# Altium schematic symbol library Misc.SCHLIB: 46 symbols
Pins are listed as number, name and electrical type; pins without a type are passive.

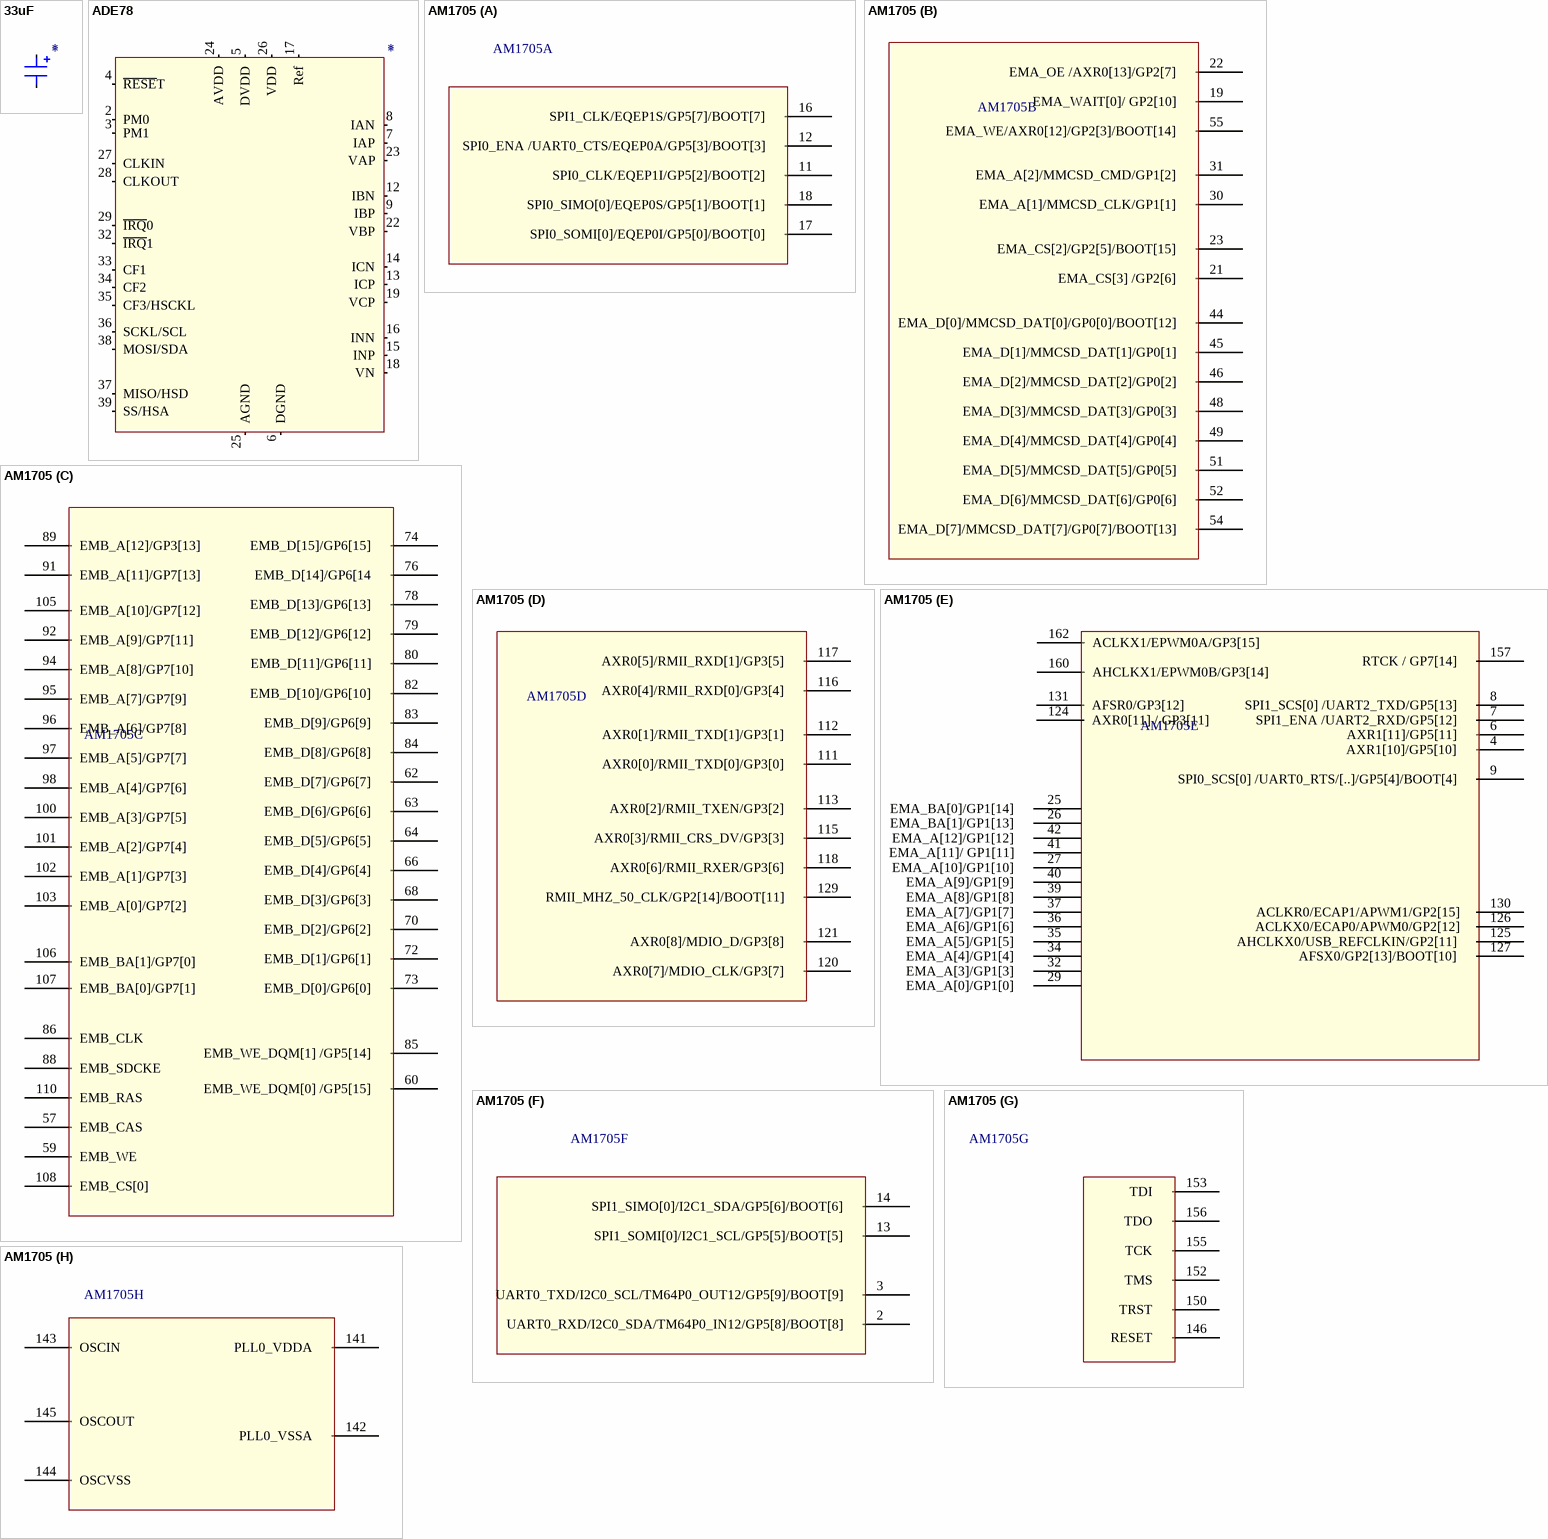
[diagram p0: symbols 33uF to AM1705]

## 33uF
designator *
footprint CC2312-6032
pins: 1 +, 2 -

## ADE78
designator *
footprint 40LFCSP
footprint 40LFCSP
pins: 2 PM0, 3 PM1, 4 ~{RESE}T, 5 DVDD, 6 DGND, 7 IAP, 8 IAN, 9 IBP, 12 IBN, 13 ICP, 14 ICN, 15 INP, 16 INN, 17 Ref, 18 VN, 19 VCP, 22 VBP, 23 VAP, 24 AVDD, 25 AGND, 26 VDD, 27 CLKIN, 28 CLKOUT, 29 ~{IRQ}0, 32 ~{IRQ}1, 33 CF1, 34 CF2, 35 CF3/HSCKL, 36 SCKL/SCL, 37 MISO/HSD, 38 MOSI/SDA, 39 SS/HSA

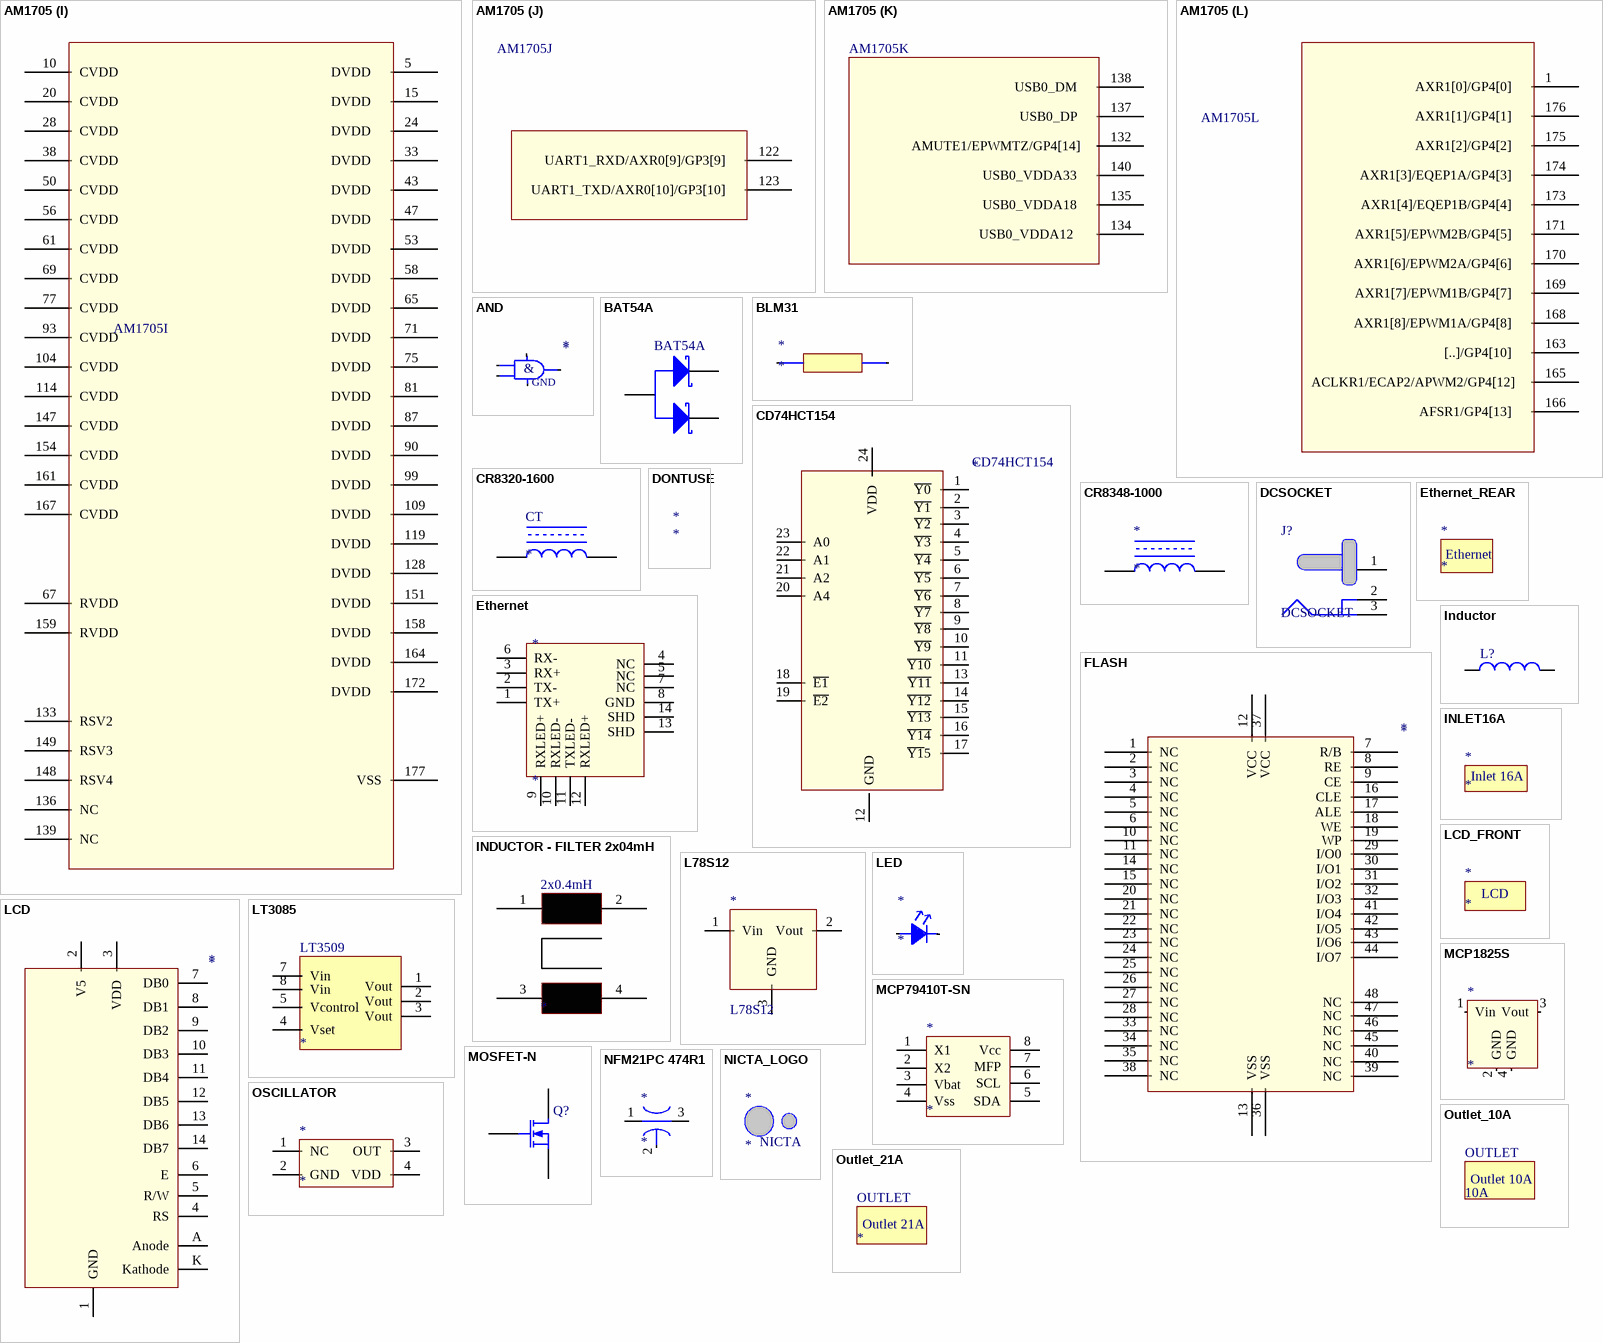
[diagram p1: symbols AM1705 to Outlet_21A]

## AM1705
designator AM1705
footprint HLQFP (PTP) 176 (Huuuuuuuge)
part A pins: 11 SPI0_CLK/EQEP1I/GP5[2]/BOOT[2]   , 12 SPI0_ENA /UART0_CTS/EQEP0A/GP5[3]/BOOT[3]   , 16 SPI1_CLK/EQEP1S/GP5[7]/BOOT[7]   , 17 SPI0_SOMI[0]/EQEP0I/GP5[0]/BOOT[0]   , 18 SPI0_SIMO[0]/EQEP0S/GP5[1]/BOOT[1]   
part B pins: 19 EMA_WAIT[0]/ GP2[10]   , 21 EMA_CS[3] /GP2[6]   , 22 EMA_OE /AXR0[13]/GP2[7]   , 23 EMA_CS[2]/GP2[5]/BOOT[15]   , 30 EMA_A[1]/MMCSD_CLK/GP1[1]   , 31 EMA_A[2]/MMCSD_CMD/GP1[2]   , 44 EMA_D[0]/MMCSD_DAT[0]/GP0[0]/BOOT[12]   , 45 EMA_D[1]/MMCSD_DAT[1]/GP0[1]   , 46 EMA_D[2]/MMCSD_DAT[2]/GP0[2]   , 48 EMA_D[3]/MMCSD_DAT[3]/GP0[3]   , 49 EMA_D[4]/MMCSD_DAT[4]/GP0[4]   , 51 EMA_D[5]/MMCSD_DAT[5]/GP0[5]   , 52 EMA_D[6]/MMCSD_DAT[6]/GP0[6]   , 54 EMA_D[7]/MMCSD_DAT[7]/GP0[7]/BOOT[13]   , 55 EMA_WE/AXR0[12]/GP2[3]/BOOT[14]   
part C pins: 57 EMB_CAS   , 59 EMB_WE   , 60 EMB_WE_DQM[0] /GP5[15]   , 62 EMB_D[7]/GP6[7]   , 63 EMB_D[6]/GP6[6]   , 64 EMB_D[5]/GP6[5]   , 66 EMB_D[4]/GP6[4]   , 68 EMB_D[3]/GP6[3]   , 70 EMB_D[2]/GP6[2]   , 72 EMB_D[1]/GP6[1]   , 73 EMB_D[0]/GP6[0]   , 74 EMB_D[15]/GP6[15]   , 76 EMB_D[14]/GP6[14   , 78 EMB_D[13]/GP6[13]   , 79 EMB_D[12]/GP6[12]   , 80 EMB_D[11]/GP6[11]   , 82 EMB_D[10]/GP6[10]   , 83 EMB_D[9]/GP6[9]   , 84 EMB_D[8]/GP6[8]   , 85 EMB_WE_DQM[1] /GP5[14]   , 86 EMB_CLK   , 88 EMB_SDCKE   , 89 EMB_A[12]/GP3[13]   , 91 EMB_A[11]/GP7[13]   , 92 EMB_A[9]/GP7[11]   , 94 EMB_A[8]/GP7[10]   , 95 EMB_A[7]/GP7[9]   , 96 EMB_A[6]/GP7[8]   , 97 EMB_A[5]/GP7[7]   , 98 EMB_A[4]/GP7[6]   , 100 EMB_A[3]/GP7[5]   , 101 EMB_A[2]/GP7[4]   , 102 EMB_A[1]/GP7[3]   , 103 EMB_A[0]/GP7[2]   , 105 EMB_A[10]/GP7[12]   , 106 EMB_BA[1]/GP7[0]   , 107 EMB_BA[0]/GP7[1]   , 108 EMB_CS[0]   , 110 EMB_RAS   
part D pins: 111 AXR0[0]/RMII_TXD[0]/GP3[0]   , 112 AXR0[1]/RMII_TXD[1]/GP3[1]   , 113 AXR0[2]/RMII_TXEN/GP3[2]   , 115 AXR0[3]/RMII_CRS_DV/GP3[3]   , 116 AXR0[4]/RMII_RXD[0]/GP3[4]   , 117 AXR0[5]/RMII_RXD[1]/GP3[5]   , 118 AXR0[6]/RMII_RXER/GP3[6]   , 120 AXR0[7]/MDIO_CLK/GP3[7]   , 121 AXR0[8]/MDIO_D/GP3[8]   , 129 RMII_MHZ_50_CLK/GP2[14]/BOOT[11]   
part E pins: 4 AXR1[10]/GP5[10]   , 6 AXR1[11]/GP5[11]   , 7 SPI1_ENA /UART2_RXD/GP5[12]   , 8 SPI1_SCS[0] /UART2_TXD/GP5[13]   , 9 SPI0_SCS[0] /UART0_RTS/[..]/GP5[4]/BOOT[4]   , 25 EMA_BA[0]/GP1[14]   , 26 EMA_BA[1]/GP1[13]   , 27 EMA_A[10]/GP1[10]   , 29 EMA_A[0]/GP1[0]   , 32 EMA_A[3]/GP1[3]   , 34 EMA_A[4]/GP1[4]   , 35 EMA_A[5]/GP1[5]   , 36 EMA_A[6]/GP1[6]   , 37 EMA_A[7]/GP1[7]   , 39 EMA_A[8]/GP1[8]   , 40 EMA_A[9]/GP1[9]   , 41 EMA_A[11]/ GP1[11]   , 42 EMA_A[12]/GP1[12]   , 124 AXR0[11] / GP3[11] , 125 AHCLKX0/USB_REFCLKIN/GP2[11]   , 126 ACLKX0/ECAP0/APWM0/GP2[12]  , 127 AFSX0/GP2[13]/BOOT[10]   , 130 ACLKR0/ECAP1/APWM1/GP2[15]  , 131 AFSR0/GP3[12]   , 157 RTCK / GP7[14]   , 160 AHCLKX1/EPWM0B/GP3[14]   , 162 ACLKX1/EPWM0A/GP3[15]   
part F pins: 2 UART0_RXD/I2C0_SDA/TM64P0_IN12/GP5[8]/BOOT[8]   , 3 UART0_TXD/I2C0_SCL/TM64P0_OUT12/GP5[9]/BOOT[9]   , 13 SPI1_SOMI[0]/I2C1_SCL/GP5[5]/BOOT[5]   , 14 SPI1_SIMO[0]/I2C1_SDA/GP5[6]/BOOT[6]   
part G pins: 146 RESET   , 150 TRST   , 152 TMS   , 153 TDI   , 155 TCK   , 156 TDO   
part H pins: 141 PLL0_VDDA   , 142 PLL0_VSSA   , 143 OSCIN   , 144 OSCVSS   , 145 OSCOUT   
part I pins: 5 DVDD   , 10 CVDD   , 15 DVDD   , 20 CVDD   , 24 DVDD   , 28 CVDD   , 33 DVDD   , 38 CVDD   , 43 DVDD   , 47 DVDD   , 50 CVDD   , 53 DVDD   , 56 CVDD   , 58 DVDD   , 61 CVDD   , 65 DVDD   , 67 RVDD   , 69 CVDD   , 71 DVDD   , 75 DVDD   , 77 CVDD   , 81 DVDD   , 87 DVDD   , 90 DVDD   , 93 CVDD   , 99 DVDD   , 104 CVDD   , 109 DVDD   , 114 CVDD   , 119 DVDD   , 128 DVDD   , 133 RSV2   , 136 NC   , 139 NC  , 147 CVDD   , 148 RSV4   , 149 RSV3   , 151 DVDD   , 154 CVDD   , 158 DVDD   , 159 RVDD   , 161 CVDD   , 164 DVDD   , 167 CVDD   , 172 DVDD   , 177 VSS
part J pins: 122 UART1_RXD/AXR0[9]/GP3[9]   , 123 UART1_TXD/AXR0[10]/GP3[10]   
part K pins: 132 AMUTE1/EPWMTZ/GP4[14]  , 134 USB0_VDDA12    , 135 USB0_VDDA18   , 137 USB0_DP   , 138 USB0_DM   , 140 USB0_VDDA33   
part L pins: 1 AXR1[0]/GP4[0]   , 163 [..]/GP4[10]   , 165 ACLKR1/ECAP2/APWM2/GP4[12]  , 166 AFSR1/GP4[13]   , 168 AXR1[8]/EPWM1A/GP4[8]   , 169 AXR1[7]/EPWM1B/GP4[7]   , 170 AXR1[6]/EPWM2A/GP4[6]   , 171 AXR1[5]/EPWM2B/GP4[5]   , 173 AXR1[4]/EQEP1B/GP4[4]   , 174 AXR1[3]/EQEP1A/GP4[3]   , 175 AXR1[2]/GP4[2]   , 176 AXR1[1]/GP4[1]   

## AND
designator *
footprint SOT25
pins: 1 A, 2 B, 3 GND, 4 Y, 5 VCC
text: &

## BAT54A
designator BAT54A
footprint SOT23_2
pins: 1, 2, 3

## BLM31
designator *
footprint BLM31P
pins: 1, 2

## CD74HCT154
designator CD74HCT154
Demux 4:16; Digikey: 296-9182-5-ND
pins: 1 ~{Y0}, 2 ~{Y1}, 3 ~{Y2}, 4 ~{Y3}, 5 ~{Y4}, 6 ~{Y5}, 7 ~{Y6}, 8 ~{Y7}, 9 ~{Y8}, 10 ~{Y9}, 11 ~{Y10}, 12 GND, 13 ~{Y11}, 14 ~{Y12}, 15 ~{Y13}, 16 ~{Y14}, 17 ~{Y1}5, 18 ~{E1}, 19 ~{E2}, 20 A4, 21 A2, 22 A1, 23 A0, 24 VDD

## CR8320-1600
designator CT
Digikey: 582-1009-ND
footprint CR8320-1600 (Current Transformer)
footprint CR8320-1600 (Current Transformer)
pins: 1, 2

## CR8348-1000
designator *
Digikey: CR8348-1000-ND
footprint CR8348-1000 (Current Transformer)
footprint CR8348-1000 (Current Transformer)
pins: 1, 2

## DCSOCKET
designator J?
footprint DCSOCKET
footprint DCSOCKET2
pins: 1, 2, 3

## DONTUSE
designator *
footprint SSOP28
footprint MSOP16
footprint BLM31P
footprint SOD323
footprint 40LFCSP
footprint USB_AB
footprint VDR
footprint Transformer - POWER (Power Supply)
footprint INDUCTOR - FILTER (2x0.4mH)
footprint DBL205G
footprint CAP RADIAL 2.2nF/630V
footprint CAP RADIAL 100nF/275V
footprint ACHDR (1.5mm holes for AC lines)

## Ethernet
designator *
footprint Ethernet2
pins: 1 TX+, 2 TX-, 3 RX+, 4 NC, 5 NC, 6 RX-, 7 NC, 8 GND, 9 RXLED+, 10 RXLED-, 11 TXLED-, 12 RXLED+, 13 SHD, 14 SHD

## Ethernet_REAR
designator *
footprint ETHERNET_REAR
text: Ethernet

## FLASH
designator *
footprint SOP48
pins: 1 NC, 2 NC, 3 NC, 4 NC, 5 NC, 6 NC, 7 R/B, 8 RE, 9 CE, 10 NC, 11 NC, 12 VCC, 13 VSS, 14 NC, 15 NC, 16 CLE, 17 ALE, 18 WE, 19 WP, 20 NC, 21 NC, 22 NC, 23 NC, 24 NC, 25 NC, 26 NC, 27 NC, 28 NC, 29 I/O0, 30 I/O1, 31 I/O2, 32 I/O3, 33 NC, 34 NC, 35 NC, 36 VSS, 37 VCC, 38 NC, 39 NC, 40 NC, 41 I/O4, 42 I/O5, 43 I/O6, 44 I/O7, 45 NC, 46 NC, 47 NC, 48 NC

## Inductor
designator L?
Inductor; Published: 8-Jun-2000; Revision: July-2002: Re-released for DXP Platform.; Publisher: Altium Limited
footprint SRR6038
pins: 1, 2

## INDUCTOR - FILTER 2x04mH
designator 2x0.4mH
pins: 1, 2, 3, 4

## INLET16A
designator *
footprint INLET16A
text: Inlet 16A

## L78S12
designator *
footprint TO220
pins: 1 Vin, 2 Vout, 3 GND

## LCD
designator *
footprint LCD
pins: 1 GND, 2 V5, 3 VDD, 4 RS, 5 R/W, 6 E, 7 DB0, 8 DB1, 9 DB2, 10 DB3, 11 DB4, 12 DB5, 13 DB6, 14 DB7, A Anode, K Kathode

## LCD_FRONT
designator *
footprint LCD_FRONT
text: LCD

## LED
designator *
footprint 0805
pins: 1, 2

## LT3085
designator LT3509
pins: 1 Vout, 2 Vout, 3 Vout, 4 Vset, 5 Vcontrol, 7 Vin, 8 Vin

## MCP1825S
designator *
footprint SOT223
pins: 1 Vin, 2 GND, 3 Vout, 4 GND

## MCP79410T-SN
designator *
footprint SOIC8 (Narrow 3.9mm Body)
pins: 1 X1, 2 X2, 3 Vbat, 4 Vss, 5 SDA, 6 SCL, 7 MFP, 8 Vcc

## MOSFET-N
designator Q?
N-Channel MOSFET; Published: 8-Jun-2000; Revision: July-2002: Re-released for DXP Platform.; Publisher: Altium Limited
footprint SOT23
pins: D, G, S

## NFM21PC 474R1
designator *
footprint NFM21PC
pins: 1 Input, 2 GND, 3 Output

## NICTA_LOGO
designator *
footprint NICTA_LOGO
footprint NICTA_LOGO_LARGE
text: NICTA

## OSCILLATOR
designator *
footprint OSC_SMD
pins: 1 NC, 2 GND, 3 OUT, 4 VDD

## Outlet_10A
designator OUTLET, comment 10A
footprint Outlet_10A
text: Outlet 10A

## Outlet_21A
designator OUTLET
21A
footprint Outlet_21A
text: Outlet 21A

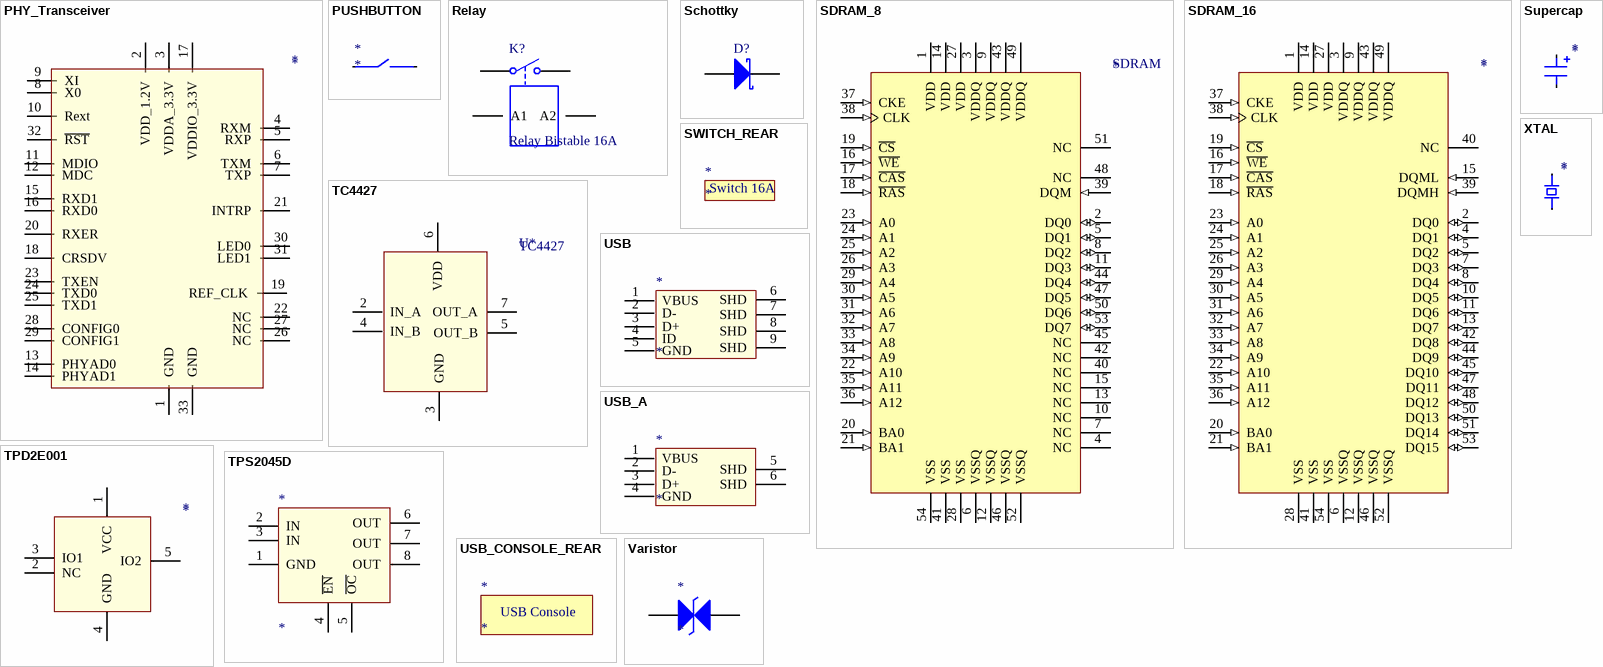
[diagram p2: symbols PHY_Transceiver to XTAL]

## PHY_Transceiver
designator *
footprint 32QFN
pins: 1 GND, 2 VDD_1.2V, 3 VDDA_3.3V, 4 RXM, 5 RXP, 6 TXM, 7 TXP, 8 X0, 9 XI, 10 Rext, 11 MDIO, 12 MDC, 13 PHYAD0 , 14 PHYAD1, 15 RXD1, 16 RXD0, 17 VDDIO_3.3V, 18 CRSDV, 19 REF_CLK, 20 RXER, 21 INTRP, 22 NC, 23 TXEN, 24 TXD0, 25 TXD1, 26 NC, 27 NC, 28 CONFIG0, 29 CONFIG1, 30 LED0, 31 LED1, 32 ~{RST}, 33 GND

## PUSHBUTTON
designator *
footprint PUSHBUTTON
pins: 1, 2, 3, 4

## Relay
designator K?, comment Relay Bistable 16A
Bistable; Published: 24-Mar-1999; Revision: July-2002: Re-released for DXP Platform.; Publisher: Altium Limited; Digikey: PB1088-ND
footprint RELAY_BIS
pins: 11 1, 14 2, A1, A2

## Schottky
designator D?
footprint MBRM140
pins: A, K

## SDRAM_8
designator SDRAM
footprint TSSOP2-54
pins: 1 VDD (power) "Power Supply", 2 DQ0 (io) "Data Input/Output 0", 3 VDDQ (power) "DQ Power", 4 NC "No Connect", 5 DQ1 (io) "Data Input/Output 1", 6 VSSQ (power) "DQ Ground", 7 NC "No Connect", 8 DQ2 (io) "Data Input/Output 2", 9 VDDQ (power) "DQ Power", 10 NC "No Connect", 11 DQ3 (io) "Data Input/Output 3", 12 VSSQ (power) "DQ Ground", 13 NC "No Connect", 14 VDD (power) "Power Supply", 15 NC "No Connect", 16 ~{WE} (in) "Command Input", 17 ~{CAS} (in) "Command Input", 18 ~{RAS} (in) "Command Input", 19 ~{CS} (in) "Chip Select", 20 BA0 (in) "Bank Address Input 0", 21 BA1 (in) "Bank Address Input 1", 22 A10 (in) "Address Input 10", 23 A0 (in) "Address Input 0", 24 A1 (in) "Address Input 1", 25 A2 (in) "Address Input 2", 26 A3 (in) "Address Input 3", 27 VDD (power) "Power Supply", 28 VSS (power) "Ground", 29 A4 (in) "Address Input 4", 30 A5 (in) "Address Input 5", 31 A6 (in) "Address Input 6", 32 A7 (in) "Address Input 7", 33 A8 (in) "Address Input 8", 34 A9 (in) "Address Input 9", 35 A11 (in) "Address Input 11", 36 A12 (in) "Address Input 12", 37 CKE (in) "Clock Enable", 38 CLK (in) "Clock", 39 DQM (in) "Input/Output Mask", 40 NC "No Connect", 41 VSS (power) "Ground", 42 NC "No Connect", 43 VDDQ (power) "DQ Power", 44 DQ4 (io) "Data Input/Output 4", 45 NC "No Connect", 46 VSSQ (power) "DQ Ground", 47 DQ5 (io) "Data Input/Output 5", 48 NC "No Connect", 49 VDDQ (power) "DQ Power", 50 DQ6 (io) "Data Input/Output 6", 51 NC "No Connect", 52 VSSQ (power) "DQ Ground", 53 DQ7 (io) "Data Input/Output 7", 54 VSS (power) "Ground"

## SDRAM_16
designator *
footprint TSSOP2-54
pins: 1 VDD (power) "Power Supply", 2 DQ0 (io) "Data Input/Output 0", 3 VDDQ (power) "DQ Power", 4 DQ1 (io) "Data Input/Output 1", 5 DQ2 (io) "Data Input/Output 2", 6 VSSQ (power) "DQ Ground", 7 DQ3 (io) "Data Input/Output 3", 8 DQ4 (io) "Data Input/Output 4", 9 VDDQ (power) "DQ Power", 10 DQ5 (io) "Data Input/Output 5", 11 DQ6 (io) "Data Input/Output 6", 12 VSSQ (power) "DQ Ground", 13 DQ7 (io) "Data Input/Output 7", 14 VDD (power) "Power Supply", 15 DQML (in) "Input/Output Mask for DQ0-DQ7", 16 ~{WE} (in) "Command Input", 17 ~{CAS} (in) "Command Input", 18 ~{RAS} (in) "Command Input", 19 ~{CS} (in) "Chip Select", 20 BA0 (in) "Bank Address Input 0", 21 BA1 (in) "Bank Address Input 1", 22 A10 (in) "Address Input 10", 23 A0 (in) "Address Input 0", 24 A1 (in) "Address Input 1", 25 A2 (in) "Address Input 2", 26 A3 (in) "Address Input 3", 27 VDD (power) "Power Supply", 28 VSS (power) "Ground", 29 A4 (in) "Address Input 4", 30 A5 (in) "Address Input 5", 31 A6 (in) "Address Input 6", 32 A7 (in) "Address Input 7", 33 A8 (in) "Address Input 8", 34 A9 (in) "Address Input 9", 35 A11 (in) "Address Input 11", 36 A12 (in) "Address Input 12", 37 CKE (in) "Clock Enable", 38 CLK (in) "Clock", 39 DQMH (in) "Input/Output Mask for DQ8-DQ15", 40 NC "No Connect", 41 VSS (power) "Ground", 42 DQ8 (io) "Data Input/Output 8", 43 VDDQ (power) "DQ Power", 44 DQ9 (io) "Data Input/Output 9", 45 DQ10 (io) "Data Input/Output 10", 46 VSSQ (power) "DQ Ground", 47 DQ11 (io) "Data Input/Output 11", 48 DQ12 (io) "Data Input/Output 12", 49 VDDQ (power) "DQ Power", 50 DQ13 (io) "Data Input/Output 13", 51 DQ14 (io) "Data Input/Output 14", 52 VSSQ (power) "DQ Ground", 53 DQ15 (io) "Data Input/Output 15", 54 VSS (power) "Ground"

## Supercap
designator *
footprint SUPERCAP
pins: 1 +, 2 -

## SWITCH_REAR
designator *
footprint FRONT_SWITCH (CR series suffix E)
text: Switch 16A

## TC4427
designator U*
Push pull - Half bridge; Digikey: TC4427ACOA-ND
footprint SOIC8 (Narrow 3.9mm Body)
footprint SOIC8 (Narrow 3.9mm Body)
pins: 2 IN_A, 3 GND, 4 IN_B, 5 OUT_B, 6 VDD, 7 OUT_A

## TPD2E001
designator *
footprint SOT25_small
pins: 1 VCC, 2 NC, 3 IO1, 4 GND, 5 IO2

## TPS2045D
designator *
footprint SOP8
pins: 1 GND, 2 IN, 3 IN, 4 ~{EN}, 5 ~{OC}, 6 OUT, 7 OUT, 8 OUT

## USB
designator *
footprint USB
pins: 1 VBUS, 2 D-, 3 D+, 4 ID, 5 GND, 6 SHD, 7 SHD, 8 SHD, 9 SHD

## USB_A
designator *
footprint USB_FEMALE
pins: 1 VBUS, 2 D-, 3 D+, 4 GND, 5 SHD, 6 SHD

## USB_CONSOLE_REAR
designator *
footprint USB_CONSOLE_REAR
text: USB Console

## Varistor
designator *
pins: 1, 2

## XTAL
designator *
footprint XTAL_SMD
footprint XTAL_4SMD (0.264" L x 0.059" W (6.70mm x 1.50mm); pin to pad 2>4
pins: 1, 2